# Altium footprint library 3U16AD_PCB_1214D_Allegro.PcbLib: 54 footprints (part 1 of 4)
Each footprint in its own frame and in the unit in brackets; x right, y up, seen from the top. Pads: shape width x height; smd on the part's side, far side on the other; paste and mask are expansions set on the pad; w line width, h text height; cw(c..) or ccw(c..) is an arc to the next point about the centre after c.
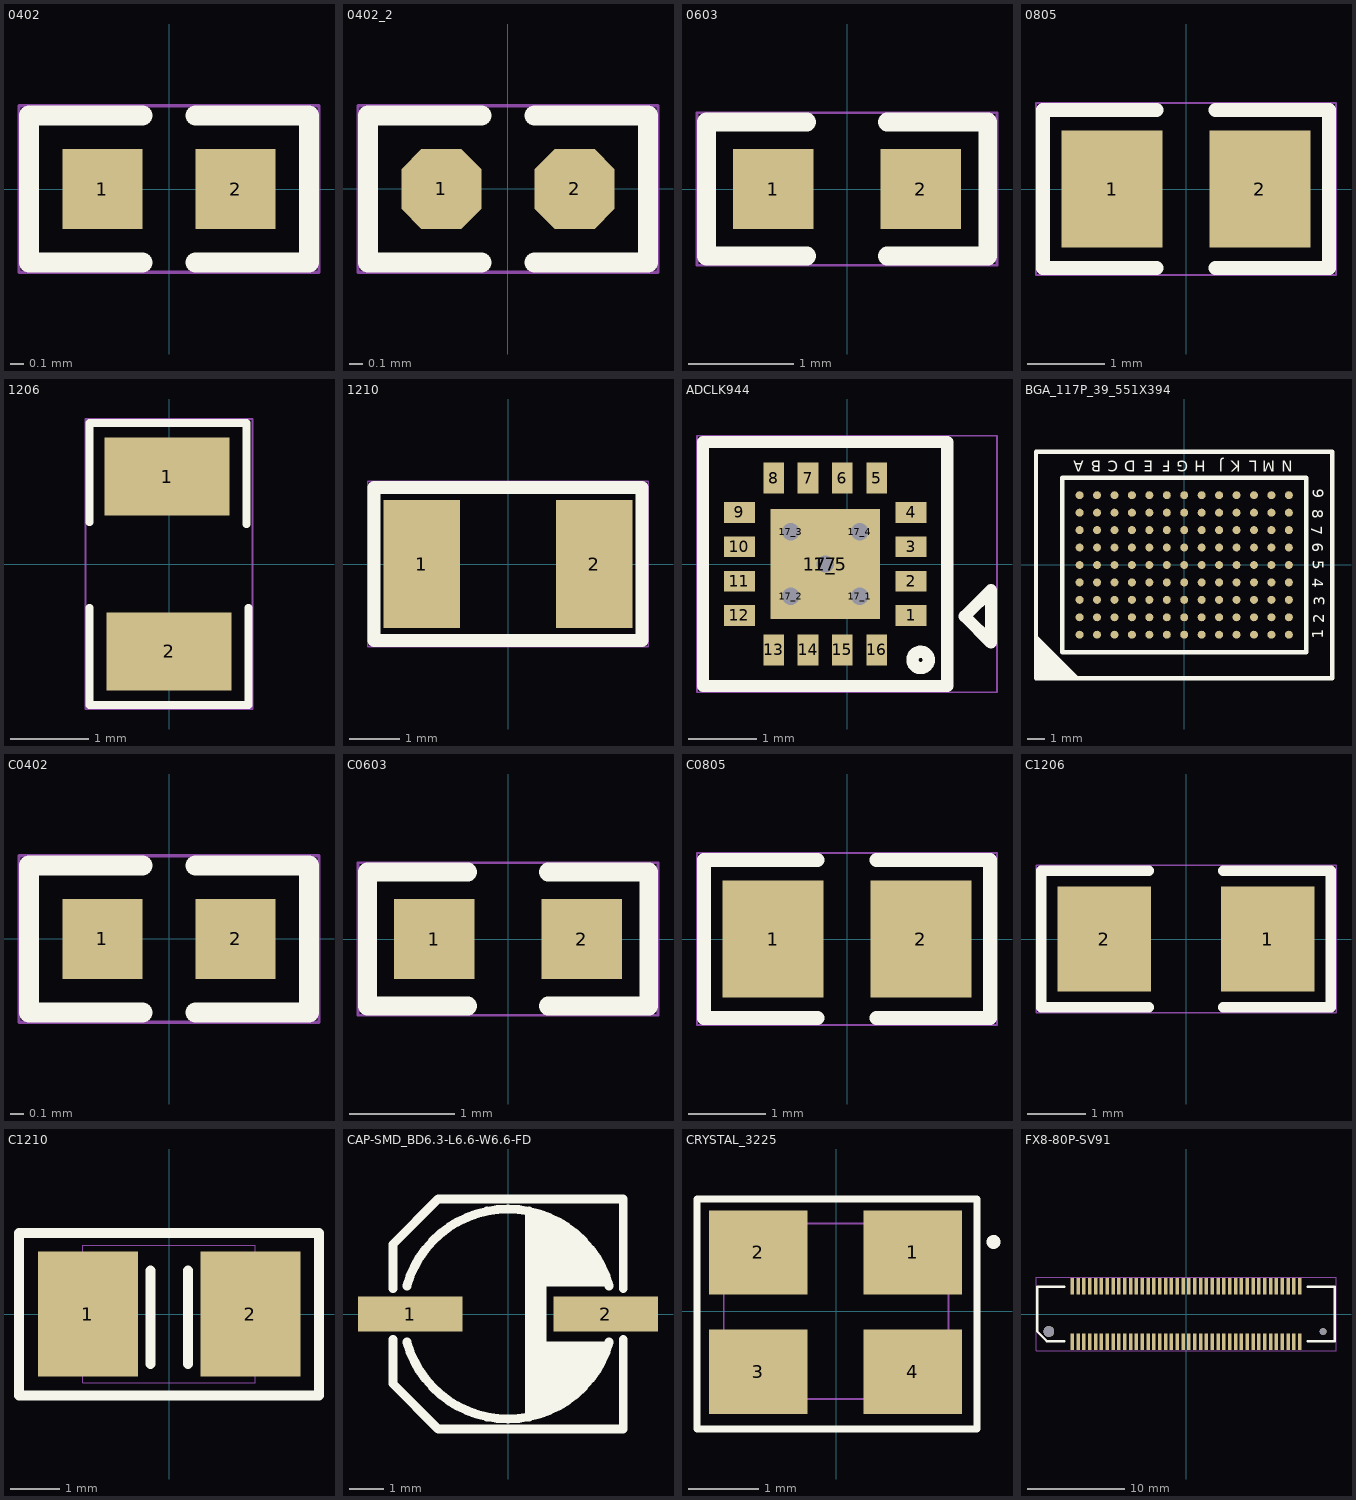
[diagram p0: the footprints below, top view; thin cyan lines are the x and y axes]

## 0402 [mm] "0402"
pads (2):
  rect 0.6x0.6 smd: 1(-0.5,0) 2(0.5,0)
Top Overlay:
  lines w0.15: -0.2,-0.55 -1.05,-0.55 -1.05,0.55 -0.2,0.55 ; 0.2,-0.55 1.05,-0.55 1.05,0.55 0.2,0.55
  text ".Designator" at 1.143,-1.016 h0.76
Mechanical 7:
  lines w0.025: -1.125,-0.625 1.125,-0.625 1.125,0.625 -1.125,0.625 -1.125,-0.625

## 0402_2 [mm] "0402_2"
pads (2):
  oct 0.6x0.6 smd: 1(-0.5,0) 2(0.5,0)
Top Overlay:
  lines w0.15: -0.2,-0.55 -1.05,-0.55 -1.05,0.55 -0.2,0.55 ; 0.2,-0.55 1.05,-0.55 1.05,0.55 0.2,0.55
Mechanical 7:
  lines w0.025: -1.125,-0.625 -1.125,0.625 1.125,0.625 1.125,-0.625 -1.125,-0.625
Mechanical 16:
  text ".Designator" at 0,0 h0.76

## 0603 [mil] "0603"
pads (2):
  rect 30x30 smd: 1(-27.5,0) 2(27.5,0)
Top Overlay:
  lines w7: -15,-25 -52.5,-25 -52.5,25 -15,25 ; 15,-25 52.5,-25 52.5,25 15,25
Mechanical 7:
  lines w1: -56,-28.5 56,-28.5 56,28.5 -56,28.5 -56,-28.5
Mechanical 16:
  text ".Designator" at 0,0 h30

## 0805 [mm] "0805"
pads (2):
  rect 1.3x1.5 smd: 1(-0.95,0) 2(0.95,0)
Top Overlay:
  lines w0.178: -0.381,-1.019 -1.841,-1.019 -1.841,1.019 -0.381,1.019 ; 0.381,-1.019 1.841,-1.019 1.841,1.019 0.381,1.019
  text ".Designator" at -3.683,-1.537 h0.76
Mechanical 7:
  lines w0.025: -1.93,-1.107 -1.93,1.107 1.93,1.107 1.93,-1.107 -1.93,-1.107

## 1206 [mil] "1206"
pads (2):
  rect 62.99x39.37 smd: 1(-1,44) 2(0,-44)
Top Overlay:
  lines w3.94: -40,-22 -40,-71 40,-71 40,-22 ; -40,21 -40,71 39,71 39,20
  text ".Designator" at 17,100 h30
Mechanical 7:
  lines w1: -41.97,-72.97 -41.97,72.97 41.97,72.97 41.97,-72.97 -41.97,-72.97

## 1210 [mil] "1210"
pads (2):
  rect 60x100 smd: 1(-67.5,0) 2(67.5,0)
Top Overlay:
  lines w10: -105,-60 -105,60 105,60 105,-60 -105,-60
  text ".Designator" at 10,158 h30
Mechanical 7:
  lines w1: -110,-65 110,-65 110,65 -110,65 -110,-65

## ADCLK944 [mil] "ADCLK944"
pads (22):
  rect 17.72x11.81 smd: 1(36.71,-29.52) 2(36.71,-9.84) 3(36.71,9.85) 4(36.71,29.53) 9(-61.72,29.53) 10(-61.72,9.84) 11(-61.72,-9.84) 12(-61.71,-29.52)
  rect 11.81x17.72 smd: 5(17.03,49.22) 6(-2.66,49.22) 7(-22.34,49.22) 8(-42.03,49.22) 13(-42.03,-49.21) 14(-22.34,-49.21) 15(-2.66,-49.21) 16(17.03,-49.21)
  round 18 hole 10: 17(-12.5,0) 17_1(7.38,-18.47) 17_2(-32.38,-18.47) 17_3(-32.38,18.47) 17_4(7.38,18.48)
  rect 62.99x62.99 smd: 17_5(-12.5,0)
Top Overlay:
  circle w7: c42.22,-54.99 r4.72
  lines w7: -82.5,-69.99 57.5,-70 57.5,70 -82.51,70 -82.5,-69.99 ; 67.5,-30 82.5,-15 82.5,-44.99 67.5,-30
  text ".Designator" at 48.5,26 h30
Mechanical 7:
  lines w1: -86.01,-73.5 86,-73.5 86,73.5 -86.01,73.5 -86.01,-73.5

## BGA_117P_39_551X394 [mil] "BGA_117P_39_551X394"
pads (117):
  round 18 smd: A1(-236.22,-157.48) A2(-236.22,-118.11) A3(-236.22,-78.74) A4(-236.22,-39.37) A5(-236.22,0) A6(-236.22,39.37) A7(-236.22,78.74) A8(-236.22,118.11) A9(-236.22,157.48) B1(-196.85,-157.48) B2(-196.85,-118.11) B3(-196.85,-78.74) B4(-196.85,-39.37) B5(-196.85,0) B6(-196.85,39.37) B7(-196.85,78.74) B8(-196.85,118.11) B9(-196.85,157.48) C1(-157.48,-157.48) C2(-157.48,-118.11) C3(-157.48,-78.74) C4(-157.48,-39.37) C5(-157.48,0) C6(-157.48,39.37) C7(-157.48,78.74) C8(-157.48,118.11) C9(-157.48,157.48) D1(-118.11,-157.48) D2(-118.11,-118.11) D3(-118.11,-78.74) D4(-118.11,-39.37) D5(-118.11,0) D6(-118.11,39.37) D7(-118.11,78.74) D8(-118.11,118.11) D9(-118.11,157.48) E1(-78.74,-157.48) E2(-78.74,-118.11) E3(-78.74,-78.74) E4(-78.74,-39.37) E5(-78.74,0) E6(-78.74,39.37) E7(-78.74,78.74) E8(-78.74,118.11) E9(-78.74,157.48) F1(-39.37,-157.48) F2(-39.37,-118.11) F3(-39.37,-78.74) F4(-39.37,-39.37) F5(-39.37,0) F6(-39.37,39.37) F7(-39.37,78.74) F8(-39.37,118.11) F9(-39.37,157.48) G1(0,-157.48) G2(0,-118.11) G3(0,-78.74) G4(0,-39.37) G5(0,0) G6(0,39.37) G7(0,78.74) G8(0,118.11) G9(0,157.48) H1(39.37,-157.48) H2(39.37,-118.11) H3(39.37,-78.74) H4(39.37,-39.37) H5(39.37,0) H6(39.37,39.37) H7(39.37,78.74) H8(39.37,118.11) H9(39.37,157.48) J1(78.74,-157.48) J2(78.74,-118.11) J3(78.74,-78.74) J4(78.74,-39.37) J5(78.74,0) J6(78.74,39.37) J7(78.74,78.74) J8(78.74,118.11) J9(78.74,157.48) K1(118.11,-157.48) K2(118.11,-118.11) K3(118.11,-78.74) K4(118.11,-39.37) K5(118.11,0) K6(118.11,39.37) K7(118.11,78.74) K8(118.11,118.11) K9(118.11,157.48) L1(157.48,-157.48) L2(157.48,-118.11) L3(157.48,-78.74) L4(157.48,-39.37) L5(157.48,0) L6(157.48,39.37) L7(157.48,78.74) L8(157.48,118.11) L9(157.48,157.48) M1(196.85,-157.48) M2(196.85,-118.11) M3(196.85,-78.74) M4(196.85,-39.37) M5(196.85,0) M6(196.85,39.37) M7(196.85,78.74) M8(196.85,118.11) M9(196.85,157.48) N1(236.22,-157.48) N2(236.22,-118.11) N3(236.22,-78.74) N4(236.22,-39.37) N5(236.22,0) N6(236.22,39.37) N7(236.22,78.74) N8(236.22,118.11) N9(236.22,157.48)
Top Overlay:
  dashed: -334.65,-157.48 -236.22,-255.91 -334.65,-255.91
  lines w10: -334.65,-255.91 334.65,-255.91 334.65,255.91 -334.65,255.91 -334.65,-255.91 ; -275.59,-196.85 275.59,-196.85 275.59,196.85 -275.59,196.85 -275.59,-196.85
  text "1" at 313.65,-166.91 h25
  text "2" at 315.65,-131.91 h25
  text "3" at 317.65,-91.91 h25
  text "4" at 288.65,-29.91 h25
  text "5" at 289.65,10.09 h25
  text "6" at 288.65,50.09 h25
  text "N" at 245.22,235.28 h25
  text "7" at 286.65,88.09 h25
  text "8" at 288.65,126.09 h25
  text "9" at 289.65,172.09 h25
  text "J" at 87.74,235.28 h25
  text "K" at 127.11,235.28 h25
  text "L" at 166.48,235.28 h25
  text "M" at 205.85,235.28 h25
  text "E" at -69.74,235.28 h25
  text "F" at -30.37,235.28 h25
  text "G" at 9,235.28 h25
  text "H" at 48.37,235.28 h25
  text ".Designator" at 6,312.5 h30
  text "A" at -227.22,235.28 h25
  text "B" at -187.85,235.28 h25
  text "C" at -148.48,235.28 h25
  text "D" at -109.11,235.28 h25
Bottom Overlay:
  text "88E1111-B2-BAB2I000" at 250.5,-429.5 h60
Mechanical 7:
  lines w1: -334.65,-255.91 334.65,-255.91 334.65,255.91 -334.65,255.91 -334.65,-255.91
Mechanical 13:
  text "N8" at 258.62,-118.11 h28
  text "N9" at 258.62,-157.48 h28
  text "M9" at 219.25,-157.48 h28
  text "M8" at 219.25,-118.11 h28
  text "N4" at 258.62,39.37 h28
  text "N7" at 258.62,-78.74 h28
  text "N6" at 258.62,-39.37 h28
  text "N5" at 258.62,0 h28
  text "M4" at 219.25,39.37 h28
  text "M7" at 219.25,-78.74 h28
  text "M6" at 219.25,-39.37 h28
  text "M5" at 219.25,0 h28
  text "N3" at 258.62,78.74 h28
  text "N1" at 258.62,157.48 h28
  text "N2" at 258.62,118.11 h28
  text "M3" at 219.25,78.74 h28
  text "M2" at 219.25,118.11 h28
  text "M1" at 219.25,157.48 h28
  text "K9" at 140.51,-157.48 h28
  text "J8" at 101.14,-118.11 h28
  text "K8" at 140.51,-118.11 h28
  text "H8" at 61.77,-118.11 h28
  text "L9" at 179.88,-157.48 h28
  text "L8" at 179.88,-118.11 h28
  text "H9" at 61.77,-157.48 h28
  text "J9" at 101.14,-157.48 h28
  text "K4" at 140.51,39.37 h28
  text "K5" at 140.51,0 h28
  text "L6" at 179.88,-39.37 h28
  text "K6" at 140.51,-39.37 h28
  text "L5" at 179.88,0 h28
  text "L4" at 179.88,39.37 h28
  text "J5" at 101.14,0 h28
  text "J4" at 101.14,39.37 h28
  text "H4" at 61.77,39.37 h28
  text "H5" at 61.77,0 h28
  text "J6" at 101.14,-39.37 h28
  text "H6" at 61.77,-39.37 h28
  text "H7" at 61.77,-78.74 h28
  text "L7" at 179.88,-78.74 h28
  text "J7" at 101.14,-78.74 h28
  text "K7" at 140.51,-78.74 h28
  text "K1" at 140.51,157.48 h28
  text "L2" at 179.88,118.11 h28
  text "H3" at 61.77,78.74 h28
  text "K2" at 140.51,118.11 h28
  text "H1" at 61.77,157.48 h28
  text "J1" at 101.14,157.48 h28
  text "L1" at 179.88,157.48 h28
  text "H2" at 61.77,118.11 h28
  text "J2" at 101.14,118.11 h28
  text "J3" at 101.14,78.74 h28
  text "K3" at 140.51,78.74 h28
  text "L3" at 179.88,78.74 h28
  text "G8" at 22.4,-118.11 h28
  text "G9" at 22.4,-157.48 h28
  text "E8" at -56.34,-118.11 h28
  text "D8" at -95.71,-118.11 h28
  text "E9" at -56.34,-157.48 h28
  text "F8" at -16.97,-118.11 h28
  text "F9" at -16.97,-157.48 h28
  text "D9" at -95.71,-157.48 h28
  text "D5" at -95.71,0 h28
  text "E6" at -56.34,-39.37 h28
  text "F6" at -16.97,-39.37 h28
  text "G4" at 22.4,39.37 h28
  text "F5" at -16.97,0 h28
  text "F4" at -16.97,39.37 h28
  text "E4" at -56.34,39.37 h28
  text "E5" at -56.34,0 h28
  text "D6" at -95.71,-39.37 h28
  text "G5" at 22.4,0 h28
  text "D4" at -95.71,39.37 h28
  text "G6" at 22.4,-39.37 h28
  text "F7" at -16.97,-78.74 h28
  text "G7" at 22.4,-78.74 h28
  text "D7" at -95.71,-78.74 h28
  text "E7" at -56.34,-78.74 h28
  text "E2" at -56.34,118.11 h28
  text "F2" at -16.97,118.11 h28
  text "G3" at 22.4,78.74 h28
  text "F1" at -16.97,157.48 h28
  text "E3" at -56.34,78.74 h28
  text "F3" at -16.97,78.74 h28
  text "G2" at 22.4,118.11 h28
  text "D1" at -95.71,157.48 h28
  text "E1" at -56.34,157.48 h28
  text "D2" at -95.71,118.11 h28
  text "D3" at -95.71,78.74 h28
  text "G1" at 22.4,157.48 h28
  text "A8" at -213.82,-118.11 h28
  text "B9" at -174.45,-157.48 h28
  text "B8" at -174.45,-118.11 h28
  text "A9" at -213.82,-157.48 h28
  text "C8" at -135.08,-118.11 h28
  text "C9" at -135.08,-157.48 h28
  text "A7" at -213.82,-78.74 h28
  text "B4" at -174.45,39.37 h28
  text "B6" at -174.45,-39.37 h28
  text "A4" at -213.82,39.37 h28
  text "A6" at -213.82,-39.37 h28
  text "C6" at -135.08,-39.37 h28
  text "C7" at -135.08,-78.74 h28
  text "B7" at -174.45,-78.74 h28
  text "A5" at -213.82,0 h28
  text "C5" at -135.08,0 h28
  text "C4" at -135.08,39.37 h28
  text "B5" at -174.45,0 h28
  text "C2" at -135.08,118.11 h28
  text "A3" at -213.82,78.74 h28
  text "B1" at -174.45,157.48 h28
  text "C1" at -135.08,157.48 h28
  text "A2" at -213.82,118.11 h28
  text "A1" at -213.82,157.48 h28
  text "B3" at -174.45,78.74 h28
  text "C3" at -135.08,78.74 h28
  text "B2" at -174.45,118.11 h28
Mechanical 14:
  text "N" at 246.22,232.28 h25
  text "M" at 206.85,232.28 h25
  text "L" at 167.48,232.28 h25
  text "K" at 128.11,232.28 h25
  text "J" at 88.74,232.28 h25
  text "H" at 49.37,232.28 h25
  text "G" at 10,232.28 h25
  text "F" at -29.37,232.28 h25
  text "E" at -68.74,232.28 h25
  text "D" at -108.11,232.28 h25
  text "U63" at 19.84,277.25 h25
  text "C" at -147.48,232.28 h25
  text "B" at -186.85,232.28 h25
  text "A" at -226.22,232.28 h25
  text "9" at -297.09,-149.61 h25
  text "8" at -297.09,-110.24 h25
  text "7" at -297.09,-70.87 h25
  text "6" at -297.09,-31.5 h25
  text "5" at -297.09,7.87 h25
  text "4" at -297.09,47.24 h25
  text "3" at -297.09,86.61 h25
  text "2" at -297.09,125.98 h25
  text "1" at -297.09,165.35 h25
Mechanical 15:
  text ".Designator" at 43.2,-12 h36
Mechanical 16:
  lines w1: -275.59,-196.85 275.59,-196.85 275.59,196.85 -275.59,196.85 -275.59,-196.85

## C0402 [mm] "C0402"
pads (2):
  rect 0.6x0.6 smd: 1(-0.5,0) 2(0.5,0)
Top Overlay:
  lines w0.15: -0.2,-0.55 -1.05,-0.55 -1.05,0.55 -0.2,0.55 ; 0.2,-0.55 1.05,-0.55 1.05,0.55 0.2,0.55
  text ".Designator" at 3.353,0.33 h0.76
Mechanical 7:
  lines w0.025: -1.125,-0.625 -1.125,0.625 1.125,0.625 1.125,-0.625 -1.125,-0.625

## C0603 [mil] "C0603"
pads (2):
  rect 30x30 smd: 1(-27.5,0) 2(27.5,0)
Top Overlay:
  lines w7: -15,-25 -52.5,-25 -52.5,25 -15,25 ; 15,-25 52.5,-25 52.5,25 15,25
Mechanical 7:
  lines w1: -56,-28.5 -56,28.5 56,28.5 56,-28.5 -56,-28.5
Mechanical 16:
  text ".Designator" at 0,0 h30

## C0805 [mm] "C0805"
pads (2):
  rect 1.3x1.5 smd: 1(-0.95,0) 2(0.95,0)
Top Overlay:
  lines w0.178: -0.381,-1.019 -1.841,-1.019 -1.841,1.019 -0.381,1.019 ; 0.381,-1.019 1.841,-1.019 1.841,1.019 0.381,1.019
Mechanical 7:
  lines w0.025: -1.93,-1.107 -1.93,1.107 1.93,1.107 1.93,-1.107 -1.93,-1.107
Mechanical 16:
  text ".Designator" at 0,0 h0.76

## C1206 [mm] "C1206"
pads (2):
  rect 1.6x1.8 smd: 1(1.4,0) 2(-1.4,0)
Top Overlay:
  lines w0.178: -0.635,-1.168 -2.476,-1.168 -2.476,1.168 -0.635,1.168 ; 0.635,-1.168 2.476,-1.168 2.476,1.168 0.635,1.168
  text ".Designator" at -1.092,2.476 h0.76
Mechanical 7:
  lines w0.025: -2.565,-1.257 2.565,-1.257 2.565,1.257 -2.565,1.257 -2.565,-1.257

## C1210 [mil] "C1210"
pads (2):
  rect 80x100 smd: 1(-65,0) 2(65,0)
Top Overlay:
  lines w8: -15,-40 -15,35 ; 15,-40 15,35 ; -120,-65 -120,65 120,65 120,-65 -120,-65
  text ".Designator" at 2,-131.5 h30
Mechanical 7:
  lines w1: -69,-55 -69,55 69,55 69,-55 -69,-55

## CAP-SMD_BD6.3-L6.6-W6.6-FD [mm]
pads (2):
  rect 3x1 smd: 1(-2.8,0) 2(2.8,0)
Top Overlay:
  region: 0.5,-3 0.5,2.9 0.5,3 0.5,2.9 1.1,2.8 1.6,2.6 1.9,2.3 2.2,2.1 2.5,1.8 2.7,1.4 2.9,0.8 1.1,0.8 1.1,-0.8 2.9,-0.8 2.8,-1 2.7,-1.4 2.4,-1.7 2.2,-2.1 1.8,-2.4 1.4,-2.6 1,-2.8
  lines w0.254: -3.297,-0.732 -3.297,-1.999 -1.996,-3.299 3.302,-3.299 3.302,-0.732 ; -3.297,0.732 -3.297,1.999 -1.996,3.299 3.302,3.299 3.302,0.732 ; -2.9,-0.8 ccw(c0,0) 2.9,-0.8 ; -2.9,0.8 cw(c0,0) 2.9,0.8

## CRYSTAL_3225 [mil] "CRYSTAL_3225"
pads (4):
  rect 55.12x47.24 smd: 1(43,33.01) 2(-43.62,33.01) 3(-43.62,-33.92) 4(43,-33.92)
Top Overlay:
  circle w3.94: c88.27,38.91 r1.97
  lines w3.94: -78,-65.99 79,-65.99 79,63.01 -78,63.01 -78,-65.99
  text ".Designator" at -69.88,111.01 h30
Mechanical 7:
  lines w1: -63,-49.21 62.99,-49.21 62.99,49.21 -63,49.21 -63,-49.21

## FX8-80P-SV91 [mm] "FX8-80P-SV91"
pads (82):
  rect 0.35x1.7 smd: A1_1(-11.7,-2.85) A1_2(-11.1,-2.85) A1_3(-10.5,-2.85) A1_4(-9.9,-2.85) A1_5(-9.3,-2.85) A1_6(-8.7,-2.85) A1_7(-8.1,-2.85) A1_8(-7.5,-2.85) A1_9(-6.9,-2.85) A1_10(-6.3,-2.85) A1_11(-5.7,-2.85) A1_12(-5.1,-2.85) A1_13(-4.5,-2.85) A1_14(-3.9,-2.85) A1_15(-3.3,-2.85) A1_16(-2.7,-2.85) A1_17(-2.1,-2.85) A1_18(-1.5,-2.85) A1_19(-0.9,-2.85) A1_20(-0.3,-2.85) A1_21(0.3,-2.85) A1_22(0.9,-2.85) A1_23(1.5,-2.85) A1_24(2.1,-2.85) A1_25(2.7,-2.85) A1_26(3.3,-2.85) A1_27(3.9,-2.85) A1_28(4.5,-2.85) A1_29(5.1,-2.85) A1_30(5.7,-2.85) A1_31(6.3,-2.85) A1_32(6.9,-2.85) A1_33(7.5,-2.85) A1_34(8.1,-2.85) A1_35(8.7,-2.85) A1_36(9.3,-2.85) A1_37(9.9,-2.85) A1_38(10.5,-2.85) A1_39(11.1,-2.85) A1_40(11.7,-2.85) B1_1(-11.7,2.85) B1_2(-11.1,2.85) B1_3(-10.5,2.85) B1_4(-9.9,2.85) B1_5(-9.3,2.85) B1_6(-8.7,2.85) B1_7(-8.1,2.85) B1_8(-7.5,2.85) B1_9(-6.9,2.85) B1_10(-6.3,2.85) B1_11(-5.7,2.85) B1_12(-5.1,2.85) B1_13(-4.5,2.85) B1_14(-3.9,2.85) B1_15(-3.3,2.85) B1_16(-2.7,2.85) B1_17(-2.1,2.85) B1_18(-1.5,2.85) B1_19(-0.9,2.85) B1_20(-0.3,2.85) B1_21(0.3,2.85) B1_22(0.9,2.85) B1_23(1.5,2.85) B1_24(2.1,2.85) B1_25(2.7,2.85) B1_26(3.3,2.85) B1_27(3.9,2.85) B1_28(4.5,2.85) B1_29(5.1,2.85) B1_30(5.7,2.85) B1_31(6.3,2.85) B1_32(6.9,2.85) B1_33(7.5,2.85) B1_34(8.1,2.85) B1_35(8.7,2.85) B1_36(9.3,2.85) B1_37(9.9,2.85) B1_38(10.5,2.85) B1_39(11.1,2.85) B1_40(11.7,2.85)
  round 1.1 hole 1.1: ZH-C1(-14.1,-1.8)
  round 0.7 hole 0.7: ZH-C2(14.1,-1.8)
Top Overlay:
  lines w0.254: -12.5,-2.8 -14.3,-2.8 -15.3,-1.8 -15.3,2.8 -12.5,2.8 ; 12.5,-2.8 15.3,-2.8 15.3,2.8 12.5,2.8
  text ".Designator" at -0.709,-5.085 h0.76
Mechanical 7:
  lines w0.025: -15.427,-3.802 15.427,-3.802 15.427,3.802 -15.427,3.802 -15.427,-3.802